# Altium footprint library Header Connector.PcbLib: 36 footprints (part 2 of 3)
Each footprint in its own frame and in the unit in brackets; x right, y up, seen from the top. Pads: shape width x height; smd on the part's side, far side on the other; paste and mask are expansions set on the pad; w line width, h text height; cw(c..) or ccw(c..) is an arc to the next point about the centre after c.
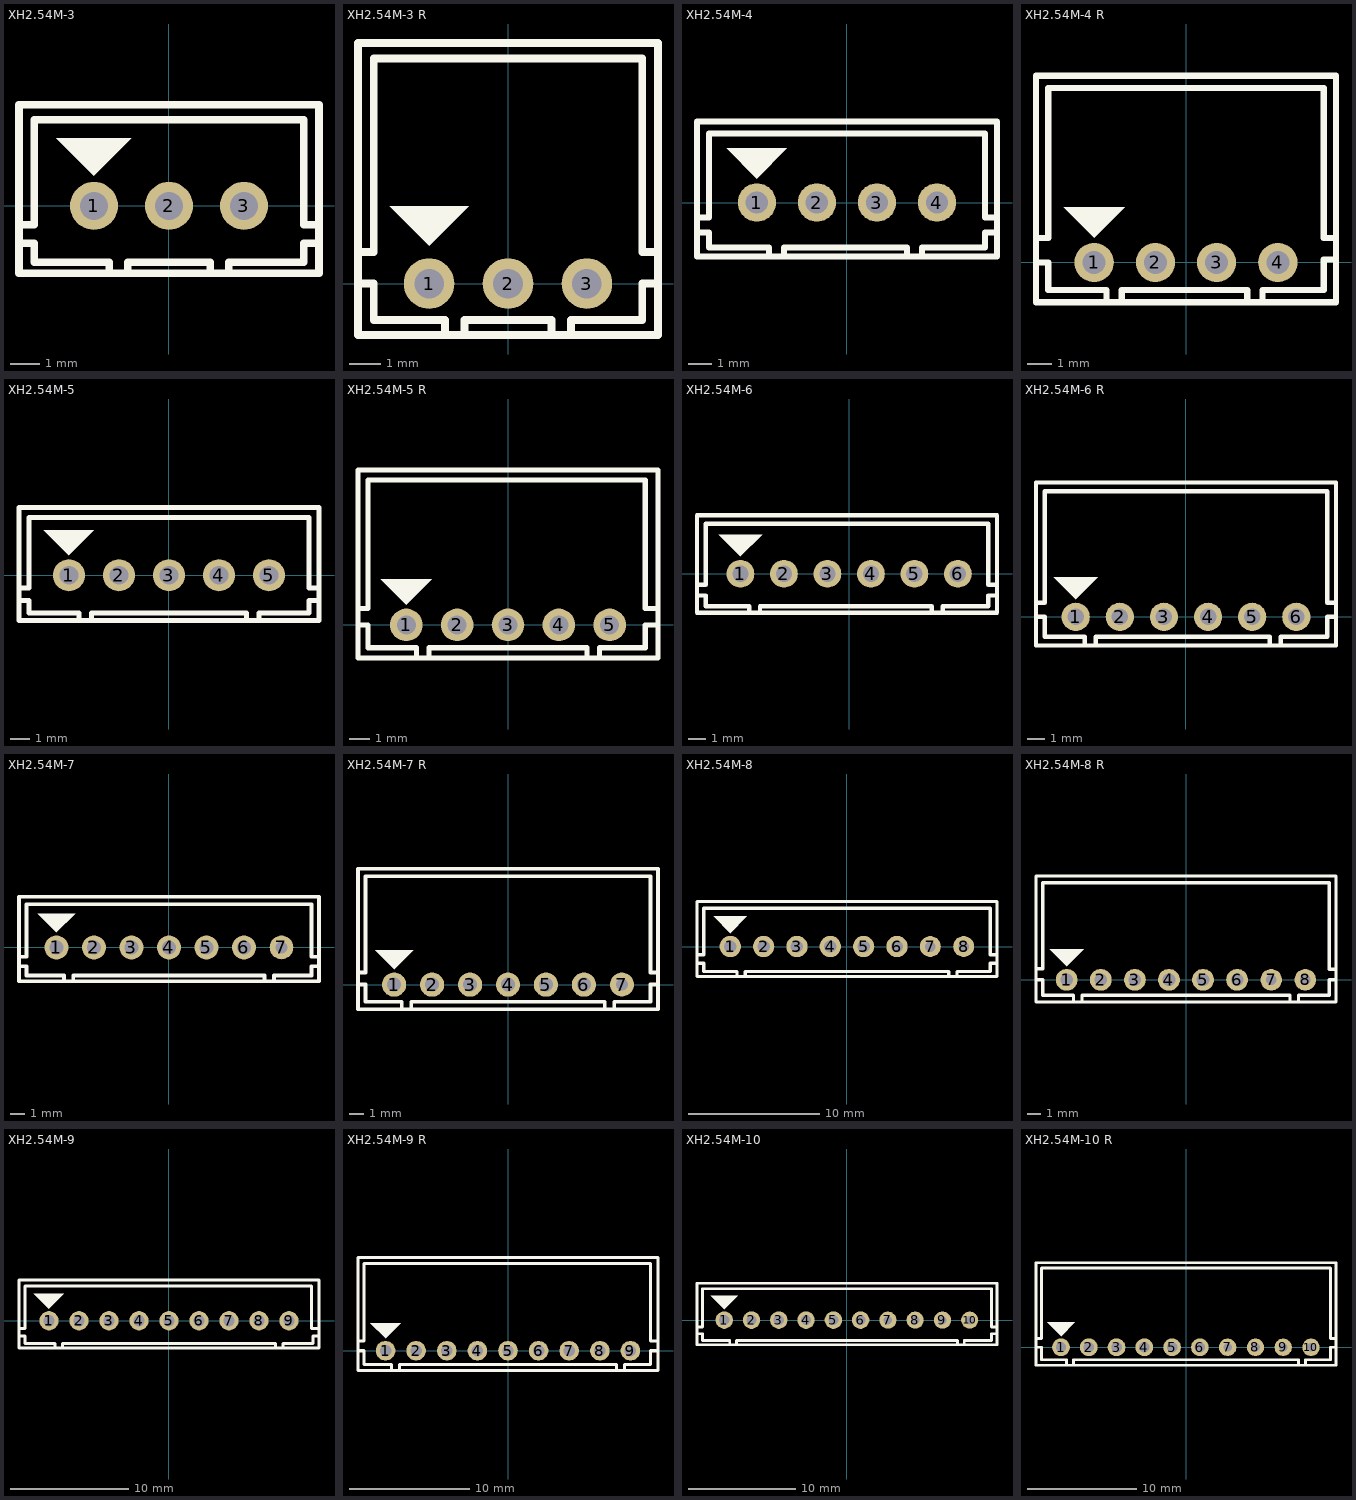
[diagram p1: the footprints below, top view; thin cyan lines are the x and y axes]

## XH2.54M-3 [mm]
pads (3):
  round 1.626 hole 0.95: 1(-2.54,0) 2(0,0) 3(2.54,0)
Top Overlay:
  region: -3.81,2.286 -1.27,2.286 -2.54,1.016
  lines w0.254: -5.078,-1.27 -4.57,-1.27 -4.57,-1.905 -2.03,-1.905 -2.03,-2.286 ; -5.078,-0.635 -4.57,-0.635 -4.57,2.921 4.572,2.921 4.572,-0.635 5.08,-0.635 ; -1.397,-2.286 -1.397,-1.905 1.399,-1.905 1.399,-2.286 ; 2.032,-2.286 2.032,-1.905 4.572,-1.905 4.572,-1.27 5.08,-1.27 ; -5.078,-2.286 -5.078,3.429 5.08,3.429 5.08,-2.286 -5.078,-2.286
3D body "XH2.54M-3.STEP": height 7.03, standoff -1.7, extent -4.991,-2.299 5.049,3.441

## XH2.54M-3 R [mm]
pads (3):
  round 1.626 hole 0.95: 1(-2.54,0) 2(0,0) 3(2.54,0)
Top Overlay:
  region: -3.81,2.486 -1.27,2.486 -2.54,1.216
  lines w0.254: -4.826,0 -4.318,0 -4.318,-1.177 -2.03,-1.177 -2.03,-1.524 ; -4.826,1.016 -4.318,1.016 -4.318,7.239 4.318,7.239 4.318,1.016 4.826,1.016 ; -1.397,-1.524 -1.397,-1.177 1.399,-1.177 1.399,-1.524 ; 2.032,-1.524 2.032,-1.177 4.318,-1.177 4.318,0 4.826,0 ; -4.826,-1.651 4.826,-1.651 4.826,7.734 -4.826,7.734 -4.826,-1.651
3D body "JST - XH - Thru (R) - 3Pin - 2.54mm.stp": height 5.97, standoff -3.25, extent -4.877,-0.303 4.877,7.734

## XH2.54M-4 [mm]
pads (4):
  round 1.626 hole 0.95: 1(-3.81,0) 2(-1.27,0) 3(1.27,0) 4(3.81,0)
Top Overlay:
  region: -5.08,2.286 -2.54,2.286 -3.81,1.016
  lines w0.254: -6.348,-1.27 -5.84,-1.27 -5.84,-1.905 -3.3,-1.905 -3.3,-2.286 ; -6.348,-0.635 -5.84,-0.635 -5.84,2.921 5.842,2.921 5.842,-0.635 6.223,-0.635 ; -2.667,-2.286 -2.667,-1.905 2.54,-1.905 2.54,-2.286 ; 3.178,-2.286 3.178,-1.905 5.842,-1.905 5.842,-1.27 6.35,-1.27 ; -6.348,-2.286 6.35,-2.286 6.35,3.429 -6.348,3.429 -6.348,-2.286
3D body "XH2.54M-4.STEP": height 7.03, standoff -1.7, extent -6.286,-2.311 6.294,3.429

## XH2.54M-4 R [mm]
pads (4):
  round 1.626 hole 0.95: 1(-3.81,0) 2(-1.27,0) 3(1.27,0) 4(3.81,0)
Top Overlay:
  region: -5.08,2.286 -2.54,2.286 -3.81,1.016
  lines w0.254: -6.223,0 -5.715,0 -5.715,-1.143 -3.3,-1.143 -3.3,-1.651 ; -6.223,1.016 -5.715,1.016 -5.715,7.239 5.715,7.239 5.715,1.016 6.223,1.016 ; -2.667,-1.651 -2.667,-1.143 2.54,-1.143 2.54,-1.651 ; 3.178,-1.651 3.178,-1.143 5.715,-1.143 5.715,0.127 6.223,0.127 ; -6.223,-1.651 6.223,-1.651 6.223,7.747 -6.223,7.747 -6.223,-1.651
3D body "JST - XH - Thru (R) - 4Pin - 2.54mm.stp": height 5.97, standoff -3.25, extent -6.147,-0.303 6.147,7.734

## XH2.54M-5 [mm]
pads (5):
  round 1.626 hole 0.95: 1(-5.08,0) 2(-2.54,0) 3(0,0) 4(2.54,0) 5(5.08,0)
Top Overlay:
  region: -6.35,2.286 -3.81,2.286 -5.08,1.016
  lines w0.254: -7.618,-1.27 -7.11,-1.27 -7.11,-1.905 -4.57,-1.905 -4.57,-2.286 ; -7.618,-0.635 -7.11,-0.635 -7.11,2.921 7.112,2.921 7.112,-0.635 7.62,-0.635 ; -3.937,-2.286 -3.937,-1.905 3.937,-1.905 3.937,-2.286 ; 4.572,-2.286 4.572,-1.905 7.112,-1.905 7.112,-1.27 7.62,-1.27 ; -7.618,-2.286 7.62,-2.286 7.62,3.429 -7.618,3.429 -7.618,-2.286
3D body "XH2.54M-5.STEP": height 7.03, standoff -1.7, extent -7.556,-2.26 7.564,3.48

## XH2.54M-5 R [mm]
pads (5):
  round 1.626 hole 0.95: 1(-5.08,0) 2(-2.54,0) 3(0,0) 4(2.54,0) 5(5.08,0)
Top Overlay:
  region: -6.35,2.286 -3.81,2.286 -5.08,1.016
  lines w0.254: -7.493,0.813 -6.985,0.813 -6.985,7.239 6.858,7.239 6.858,0.813 7.493,0.813 ; -7.417,0 -6.985,0 -6.985,-1.143 -4.57,-1.143 -4.57,-1.651 ; -3.937,-1.651 -3.937,-1.143 3.937,-1.143 3.937,-1.651 ; 4.572,-1.651 4.572,-1.143 6.858,-1.143 6.858,0 7.493,0 ; -7.493,-1.651 7.493,-1.651 7.493,7.733 -7.493,7.733 -7.493,-1.651
3D body "JST - XH - Thru (R) - 5Pin - 2.54mm.stp": height 5.97, standoff -3.25, extent -7.417,-0.303 7.417,7.734

## XH2.54M-6 [mm]
pads (6):
  round 1.626 hole 0.95: 1(-6.35,0) 2(-3.81,0) 3(-1.27,0) 4(1.27,0) 5(3.81,0) 6(6.35,0)
Top Overlay:
  region: -7.62,2.286 -5.08,2.286 -6.35,1.016
  lines w0.254: -8.888,-1.27 -8.38,-1.27 -8.38,-1.905 -5.84,-1.905 -5.84,-2.286 ; -8.888,-0.635 -8.38,-0.635 -8.38,2.921 8.128,2.921 8.128,-0.635 8.636,-0.635 ; -5.207,-2.286 -5.207,-1.905 4.826,-1.905 4.826,-2.286 ; 5.461,-2.286 5.461,-1.905 8.128,-1.905 8.128,-1.27 8.636,-1.27 ; -8.888,-2.286 -8.888,3.429 8.636,3.429 8.636,-2.286 -8.888,-2.286
3D body "XH2.54M-6.STEP": height 7.03, standoff -1.7, extent -8.953,-2.311 8.707,3.429

## XH2.54M-6 R [mm]
pads (6):
  round 1.626 hole 0.95: 1(-6.35,0) 2(-3.81,0) 3(-1.27,0) 4(1.27,0) 5(3.81,0) 6(6.35,0)
Top Overlay:
  region: -7.62,2.286 -5.08,2.286 -6.35,1.016
  lines w0.254: -8.636,0 -8.128,0 -8.128,-1.143 -5.84,-1.143 -5.84,-1.651 ; -8.636,0.813 -8.128,0.813 -8.128,7.239 8.128,7.239 8.128,0.813 8.636,0.813 ; -5.207,-1.651 -5.207,-1.143 4.826,-1.143 4.826,-1.651 ; 5.461,-1.651 5.461,-1.143 8.128,-1.143 8.128,0 8.636,0 ; -8.636,-1.651 -8.636,7.734 8.636,7.734 8.636,-1.651 -8.636,-1.651
3D body "JST - XH - Thru (R) - 6Pin - 2.54mm.stp": height 5.97, standoff -3.25, extent -8.687,-0.303 8.687,7.734

## XH2.54M-7 [mm]
pads (7):
  round 1.626 hole 0.95: 1(-7.62,0) 2(-5.08,0) 3(-2.54,0) 4(0,0) 5(2.54,0) 6(5.08,0)
  round 1.6 hole 0.8: 7(7.62,0)
Top Overlay:
  region: -8.89,2.286 -6.35,2.286 -7.62,1.016
  lines w0.254: -10.158,-1.27 -9.65,-1.27 -9.65,-1.905 -7.11,-1.905 -7.11,-2.286 ; -10.158,-0.635 -9.65,-0.635 -9.65,2.921 9.652,2.921 9.652,-0.635 10.16,-0.635 ; -6.477,-2.286 -6.477,-1.905 6.477,-1.905 6.477,-2.286 ; 7.112,-2.286 7.112,-1.905 9.652,-1.905 9.652,-1.27 10.16,-1.27 ; -10.158,-2.286 -10.158,3.429 10.16,3.429 10.16,-2.286 -10.158,-2.286
3D body "XH2.54M-7.STEP": height 7.03, standoff -1.7, extent -10.096,-2.26 10.104,3.48

## XH2.54M-7 R [mm]
pads (7):
  round 1.626 hole 0.95: 1(-7.62,0) 2(-5.08,0) 3(-2.54,0) 4(0,0) 5(2.54,0) 6(5.08,0)
  round 1.6 hole 0.8: 7(7.62,0)
Top Overlay:
  region: -8.89,2.286 -6.35,2.286 -7.62,1.016
  lines w0.254: -10.033,0 -9.525,0 -9.525,-1.143 -7.11,-1.143 -7.11,-1.651 ; -10.033,0.813 -9.525,0.813 -9.525,7.239 9.525,7.239 9.525,0.8 10.033,0.8 ; -6.477,-1.651 -6.477,-1.143 6.477,-1.143 6.477,-1.651 ; 7.112,-1.651 7.112,-1.143 9.525,-1.143 9.525,0 10.033,0 ; -10.033,-1.651 10.033,-1.651 10.033,7.747 -10.033,7.747 -10.033,-1.651
3D body "JST - XH - Thru (R) - 7Pin - 2.54mm.stp": height 5.97, standoff -3.25, extent -9.957,-0.303 9.957,7.734

## XH2.54M-8 [mm]
pads (8):
  round 1.626 hole 0.95: 1(-8.89,0) 2(-6.35,0) 3(-3.81,0) 4(-1.27,0) 5(1.27,0) 6(3.81,0)
  round 1.6 hole 0.8: 7(6.35,0) 8(8.89,0)
Top Overlay:
  region: -10.16,2.286 -7.62,2.286 -8.89,1.016
  lines w0.254: -11.428,-1.27 -10.92,-1.27 -10.92,-1.905 -8.38,-1.905 -8.38,-2.286 ; -11.428,-0.635 -10.92,-0.635 -10.92,2.921 10.922,2.921 10.922,-0.635 11.43,-0.635 ; -7.747,-2.286 -7.747,-1.905 7.747,-1.905 7.747,-2.286 ; 8.382,-2.286 8.382,-1.905 10.922,-1.905 10.922,-1.27 11.43,-1.27 ; -11.428,-2.286 11.43,-2.286 11.43,3.429 -11.428,3.429 -11.428,-2.286
3D body "XH2.54M-8.STEP": height 7.03, standoff -1.7, extent -11.366,-2.26 11.374,3.48

## XH2.54M-8 R [mm]
pads (8):
  round 1.626 hole 0.95: 1(-8.89,0) 2(-6.35,0) 3(-3.81,0) 4(-1.27,0) 5(1.27,0) 6(3.81,0)
  round 1.6 hole 0.8: 7(6.35,0) 8(8.89,0)
Top Overlay:
  region: -10.16,2.286 -7.62,2.286 -8.89,1.016
  lines w0.254: -11.176,0 -10.668,0 -10.668,-1.143 -8.38,-1.143 -8.38,-1.651 ; -11.176,0.813 -10.668,0.813 -10.668,7.239 10.668,7.239 10.668,0.8 11.176,0.8 ; -7.747,-1.651 -7.747,-1.143 7.747,-1.143 7.747,-1.651 ; 8.382,-1.651 8.382,-1.143 10.668,-1.143 10.668,0 11.176,0 ; -11.176,-1.651 11.176,-1.651 11.176,7.734 -11.176,7.734 -11.176,-1.651
3D body "JST - XH - Thru (R) - 8Pin - 2.54mm.stp": height 5.97, standoff -3.25, extent -11.227,-0.303 11.227,7.734

## XH2.54M-9 [mm]
pads (9):
  round 1.626 hole 0.95: 1(-10.16,0) 2(-7.62,0) 3(-5.08,0) 4(-2.54,0) 5(0,0) 6(2.54,0) 7(5.08,0) 8(7.62,0) 9(10.16,0)
Top Overlay:
  region: -11.43,2.286 -8.89,2.286 -10.16,1.016
  lines w0.254: -12.698,-1.27 -12.19,-1.27 -12.19,-1.905 -9.65,-1.905 -9.65,-2.286 ; -12.698,-0.635 -12.19,-0.635 -12.19,2.921 12.063,2.921 12.063,-0.635 12.571,-0.635 ; -9.017,-2.286 -9.017,-1.905 9.017,-1.905 9.017,-2.286 ; 9.65,-2.286 9.65,-1.905 12.19,-1.905 12.19,-1.27 12.698,-1.27 ; -12.698,-2.286 12.7,-2.286 12.7,3.429 -12.698,3.429 -12.698,-2.286
3D body "XH2.54M-9.STEP": height 7.03, standoff -1.7, extent -12.636,-2.26 12.644,3.48

## XH2.54M-9 R [mm]
pads (9):
  round 1.626 hole 0.95: 1(-10.16,0) 2(-7.62,0) 3(-5.08,0) 4(-2.54,0) 5(0,0) 6(2.54,0) 7(5.08,0) 8(7.62,0) 9(10.16,0)
Top Overlay:
  region: -11.43,2.286 -8.89,2.286 -10.16,1.016
  lines w0.254: -12.446,0 -11.938,0 -11.938,-1.143 -9.65,-1.143 -9.65,-1.651 ; -12.446,0.813 -11.938,0.813 -11.938,7.239 11.811,7.239 11.811,0.813 12.446,0.813 ; -9.017,-1.651 -9.017,-1.143 9.017,-1.143 9.017,-1.651 ; 9.65,-1.651 9.65,-1.143 11.811,-1.143 11.811,0 12.446,0 ; -12.446,-1.651 12.446,-1.651 12.446,7.747 -12.446,7.747 -12.446,-1.651
3D body "JST - XH - Thru (R) - 9Pin - 2.54mm.stp": height 5.97, standoff -3.25, extent -12.497,-0.303 12.497,7.734

## XH2.54M-10 [mm]
pads (10):
  round 1.626 hole 0.95: 1(-11.43,0) 2(-8.89,0) 3(-6.35,0) 4(-3.81,0) 5(-1.27,0) 6(1.27,0)
  round 1.6 hole 0.8: 7(3.81,0) 8(6.35,0) 9(8.89,0) 10(11.43,0)
Top Overlay:
  region: -12.7,2.286 -10.16,2.286 -11.43,1.016
  lines w0.254: -13.968,-1.27 -13.46,-1.27 -13.46,-1.905 -10.92,-1.905 -10.92,-2.286 ; -13.968,-0.635 -13.46,-0.635 -13.46,2.921 13.462,2.921 13.462,-0.635 13.97,-0.635 ; -10.287,-2.286 -10.287,-1.905 10.287,-1.905 10.287,-2.286 ; 10.922,-2.286 10.922,-1.905 13.462,-1.905 13.462,-1.27 13.97,-1.27 ; -13.968,-2.286 13.97,-2.286 13.97,3.429 -13.968,3.429 -13.968,-2.286
3D body "XH2.54M-10.STEP": height 7.03, standoff -1.7, extent -13.906,-2.26 13.914,3.48

## XH2.54M-10 R [mm]
pads (10):
  round 1.626 hole 0.95: 1(-11.43,0) 2(-8.89,0) 3(-6.35,0) 4(-3.81,0) 5(-1.27,0) 6(1.27,0)
  round 1.6 hole 0.8: 7(3.81,0) 8(6.35,0) 9(8.89,0) 10(11.43,0)
Top Overlay:
  region: -12.7,2.286 -10.16,2.286 -11.43,1.016
  lines w0.254: -13.716,0 -13.208,0 -13.208,-1.143 -10.92,-1.143 -10.92,-1.651 ; -13.716,0.813 -13.208,0.813 -13.208,7.239 13.208,7.239 13.208,0.8 13.716,0.8 ; -10.287,-1.651 -10.287,-1.143 10.287,-1.143 10.287,-1.651 ; 10.922,-1.651 10.922,-1.143 13.208,-1.143 13.208,0 13.716,0 ; -13.716,-1.651 -13.716,7.734 13.716,7.734 13.716,-1.651 -13.716,-1.651
3D body "JST - XH - Thru (R) - 10Pin - 2.54mm.stp": height 5.97, standoff -3.25, extent -13.767,-0.303 13.767,7.734